# Altium schematic symbol library Connect.SchLib: 108 symbols
Pins are listed as number, name and electrical type; pins without a type are passive.

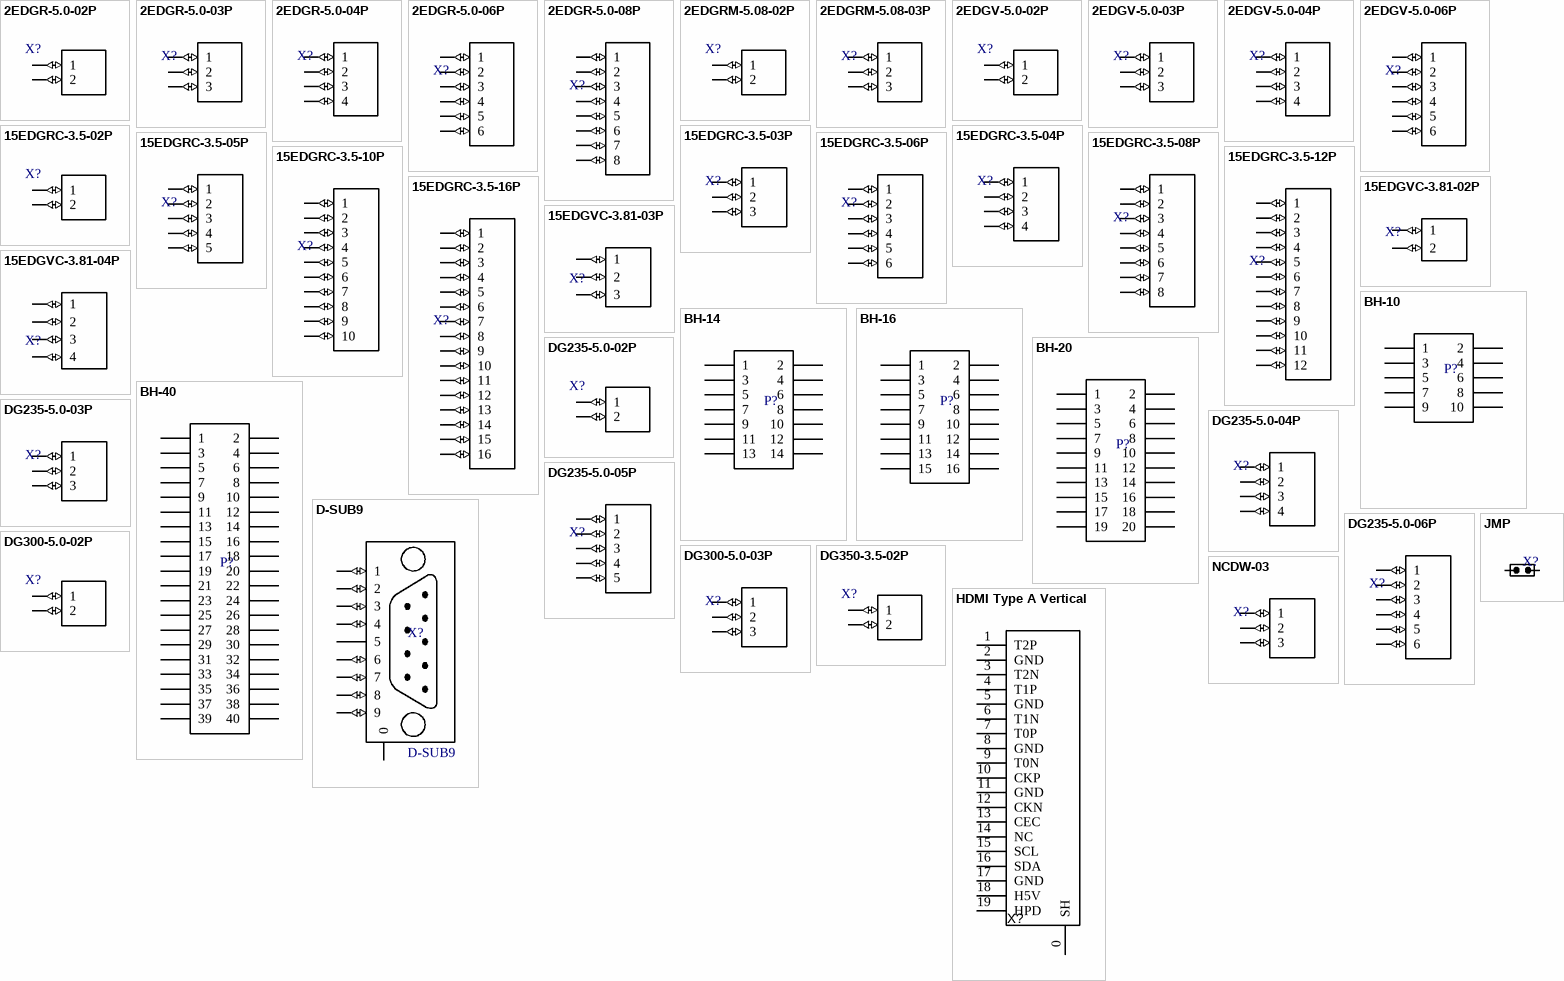
[diagram p0: symbols 2EDGR-5.0-02P to NCDW-03]

## 2EDGR-5.0-02P
designator X?
Connector 5mm
footprint 2EDGR-5.0-02P
pins: 1 (io), 2 (io)

## 2EDGR-5.0-03P
designator X?
Connector 5mm
footprint 2EDGR-5.0-03P
pins: 1 (io), 2 (io), 3 (io)

## 2EDGR-5.0-04P
designator X?
Connector 5mm
footprint 2EDGR-5.0-04P
pins: 1 (io), 2 (io), 3 (io), 4 (io)

## 2EDGR-5.0-06P
designator X?
Connector 5mm
footprint 2EDGR-5.0-06P
pins: 1 (io), 2 (io), 3 (io), 4 (io), 5 (io), 6 (io)

## 2EDGR-5.0-08P
designator X?
Connector 5mm
footprint 2EDGR-5.0-08P
pins: 1 (io), 2 (io), 3 (io), 4 (io), 5 (io), 6 (io), 7 (io), 8 (io)

## 2EDGRM-5.08-02P
designator X?
Connector 5.08mm
footprint 2EDGRM-5.08-02P
pins: 1 (io), 2 (io)

## 2EDGRM-5.08-03P
designator X?
Connector 5.08mm
footprint 2EDGRM-5.08-03P
pins: 1 (io), 2 (io), 3 (io)

## 2EDGV-5.0-02P
designator X?
Connector 5mm
footprint 2EDGV-5.0-02P
pins: 1 (io), 2 (io)

## 2EDGV-5.0-03P
designator X?
Connector 5mm
footprint 2EDGV-5.0-03P
pins: 1 (io), 2 (io), 3 (io)

## 2EDGV-5.0-04P
designator X?
Connector 5mm
footprint 2EDGV-5.0-04P
pins: 1 (io), 2 (io), 3 (io), 4 (io)

## 2EDGV-5.0-06P
designator X?
Connector 5mm
footprint 2EDGV-5.0-06P
pins: 1 (io), 2 (io), 3 (io), 4 (io), 5 (io), 6 (io)

## 15EDGRC-3.5-02P
designator X?
Connector 3.5mm
footprint 15EDGRC-3.5-02P
pins: 1 (io), 2 (io)

## 15EDGRC-3.5-03P
designator X?
Connector 3.5mm
footprint 15EDGRC-3.5-03P
pins: 1 (io), 2 (io), 3 (io)

## 15EDGRC-3.5-04P
designator X?
Connector 3.5mm
footprint 15EDGRC-3.5-04P
pins: 1 (io), 2 (io), 3 (io), 4 (io)

## 15EDGRC-3.5-05P
designator X?
Connector 3.5mm
footprint 15EDGRC-3.5-05P
pins: 1 (io), 2 (io), 3 (io), 4 (io), 5 (io)

## 15EDGRC-3.5-06P
designator X?
Connector 3.5mm
footprint 15EDGRC-3.5-06P
pins: 1 (io), 2 (io), 3 (io), 4 (io), 5 (io), 6 (io)

## 15EDGRC-3.5-08P
designator X?
Connector 3.5mm
footprint 15EDGRC-3.5-08P
pins: 1 (io), 2 (io), 3 (io), 4 (io), 5 (io), 6 (io), 7 (io), 8 (io)

## 15EDGRC-3.5-10P
designator X?
Connector 3.5mm
footprint 15EDGRC-3.5-10P
pins: 1 (io), 2 (io), 3 (io), 4 (io), 5 (io), 6 (io), 7 (io), 8 (io), 9 (io), 10 (io)

## 15EDGRC-3.5-12P
designator X?
Connector 3.5mm
footprint 15EDGRC-3.5-12P
pins: 1 (io), 2 (io), 3 (io), 4 (io), 5 (io), 6 (io), 7 (io), 8 (io), 9 (io), 10 (io), 11 (io), 12 (io)

## 15EDGRC-3.5-16P
designator X?
Connector 3.5mm
footprint 15EDGRC-3.5-16P
pins: 1 (io), 2 (io), 3 (io), 4 (io), 5 (io), 6 (io), 7 (io), 8 (io), 9 (io), 10 (io), 11 (io), 12 (io), 13 (io), 14 (io), 15 (io), 16 (io)

## 15EDGVC-3.81-02P
designator X?
Connector 3.81mm
footprint 15EDGVC-3.81-02P
pins: 1 (io), 2 (io)

## 15EDGVC-3.81-03P
designator X?
Connector 3.81mm
footprint 15EDGVC-3.81-03P
pins: 1 (io), 2 (io), 3 (io)

## 15EDGVC-3.81-04P
designator X?
Connector 3.81mm
footprint 15EDGVC-3.81-04P
pins: 1 (io), 2 (io), 3 (io), 4 (io)

## BH-10
designator P?
IDC/BH
footprint BH-10 HDR2X5 (Connector; Header; 5x2 Position)
footprint BH-10 HDR2X5 - wide area (Connector; Header; 5x2 Position)
footprint BH-10R HDR2X5 (Connector; Header; 5x2 Position)
pins: 1, 2, 3, 4, 5, 6, 7, 8, 9, 10

## BH-14
designator P?
IDC/BH
footprint BH-14 (Connector IDC)
footprint BH2-14 (Connector IDC 2mm)
footprint BH-14R (Connector IDC)
pins: 1, 2, 3, 4, 5, 6, 7, 8, 9, 10, 11, 12, 13, 14

## BH-16
designator P?
IDC/BH
footprint BH-16 (Connector; Header; 8x2 Position)
pins: 1, 2, 3, 4, 5, 6, 7, 8, 9, 10, 11, 12, 13, 14, 15, 16

## BH-20
designator P?
IDC/BH
footprint BH-20 (Connector IDC)
pins: 1, 2, 3, 4, 5, 6, 7, 8, 9, 10, 11, 12, 13, 14, 15, 16, 17, 18, 19, 20

## BH-40
designator P?
IDC/BH
footprint BH-40 (Connector IDC)
pins: 1, 2, 3, 4, 5, 6, 7, 8, 9, 10, 11, 12, 13, 14, 15, 16, 17, 18, 19, 20, 21, 22, 23, 24, 25, 26, 27, 28, 29, 30, 31, 32, 33, 34, 35, 36, 37, 38, 39, 40

## D-SUB9
designator X?
LatestRevisionDate: 17-Jul-2002; LatestRevisionNote: Re-released for DXP Platform.; Publisher: Altium Limited
footprint D-SUB 9/M_3D
footprint D-SUB 9/M_3D_mir
footprint D-SUB 9RA/M
footprint D-SUB 9/M_3D_mama
pins: 0, 1 (io), 2 (io), 3 (io), 4 (io), 5 (power), 6 (io), 7 (io), 8 (io), 9 (io)

## DG235-5.0-02P
designator X?
Connector 5mm
footprint DG235-5.0-02P
pins: 1 (io), 2 (io)

## DG235-5.0-03P
designator X?
Connector 5mm
footprint DG235-5.0-03P
pins: 1 (io), 2 (io), 3 (io)

## DG235-5.0-04P
designator X?
Connector 5mm
footprint DG235-5.0-04P
pins: 1 (io), 2 (io), 3 (io), 4 (io)

## DG235-5.0-05P
designator X?
Connector 5mm
footprint DG235-5.0-05P
pins: 1 (io), 2 (io), 3 (io), 4 (io), 5 (io)

## DG235-5.0-06P
designator X?
Connector 5mm
footprint DG235-5.0-06P
pins: 1 (io), 2 (io), 3 (io), 4 (io), 5 (io), 6 (io)

## DG300-5.0-02P
designator X?
Connector 5mm
footprint 5mm 2
pins: 1 (io), 2 (io)

## DG300-5.0-03P
designator X?
Connector 5mm
footprint 5mm 3
pins: 1 (io), 2 (io), 3 (io)

## DG350-3.5-02P
designator X?
Connector 3.5mm
footprint DG350-3.5 (DEGSON)
pins: 1 (io), 2 (io)

## HDMI Type A Vertical
designator X?
HDMI Type A
footprint HDMI Type A Vertical
pins: 0 SH, 1 T2P, 2 GND, 3 T2N, 4 T1P, 5 GND, 6 T1N, 7 T0P, 8 GND, 9 T0N, 10 CKP, 11 GND, 12 CKN, 13 CEC, 14 NC, 15 SCL, 16 SDA, 17 GND, 18 H5V, 19 HPD

## JMP
designator X?  (value not drawn)
Jumper; LatestRevisionDate: 17-Jul-2002; LatestRevisionNote: Re-released for DXP Platform.; Publisher: Altium Limited
footprint PLS-2-2 (Connector; Header; 1x2 Position)
footprint PLS-2-3D (Connector; Header; 2 Position)
footprint PLS-2RL (Connector; Header; 2 Position; Right Angle)
footprint PLS-2RL-3D (Connector; Header; 2 Position; Right Angle)
footprint PLS-2RR (Connector; Header; 2 Position; Right Angle)
footprint PLS-2RR-3D (Connector; Header; 2 Position; Right Angle)
pins: 1, 2

## NCDW-03
designator X?
Signal connector 2.54мм
footprint NCDW-03
pins: 1 (io), 2 (io), 3 (io)

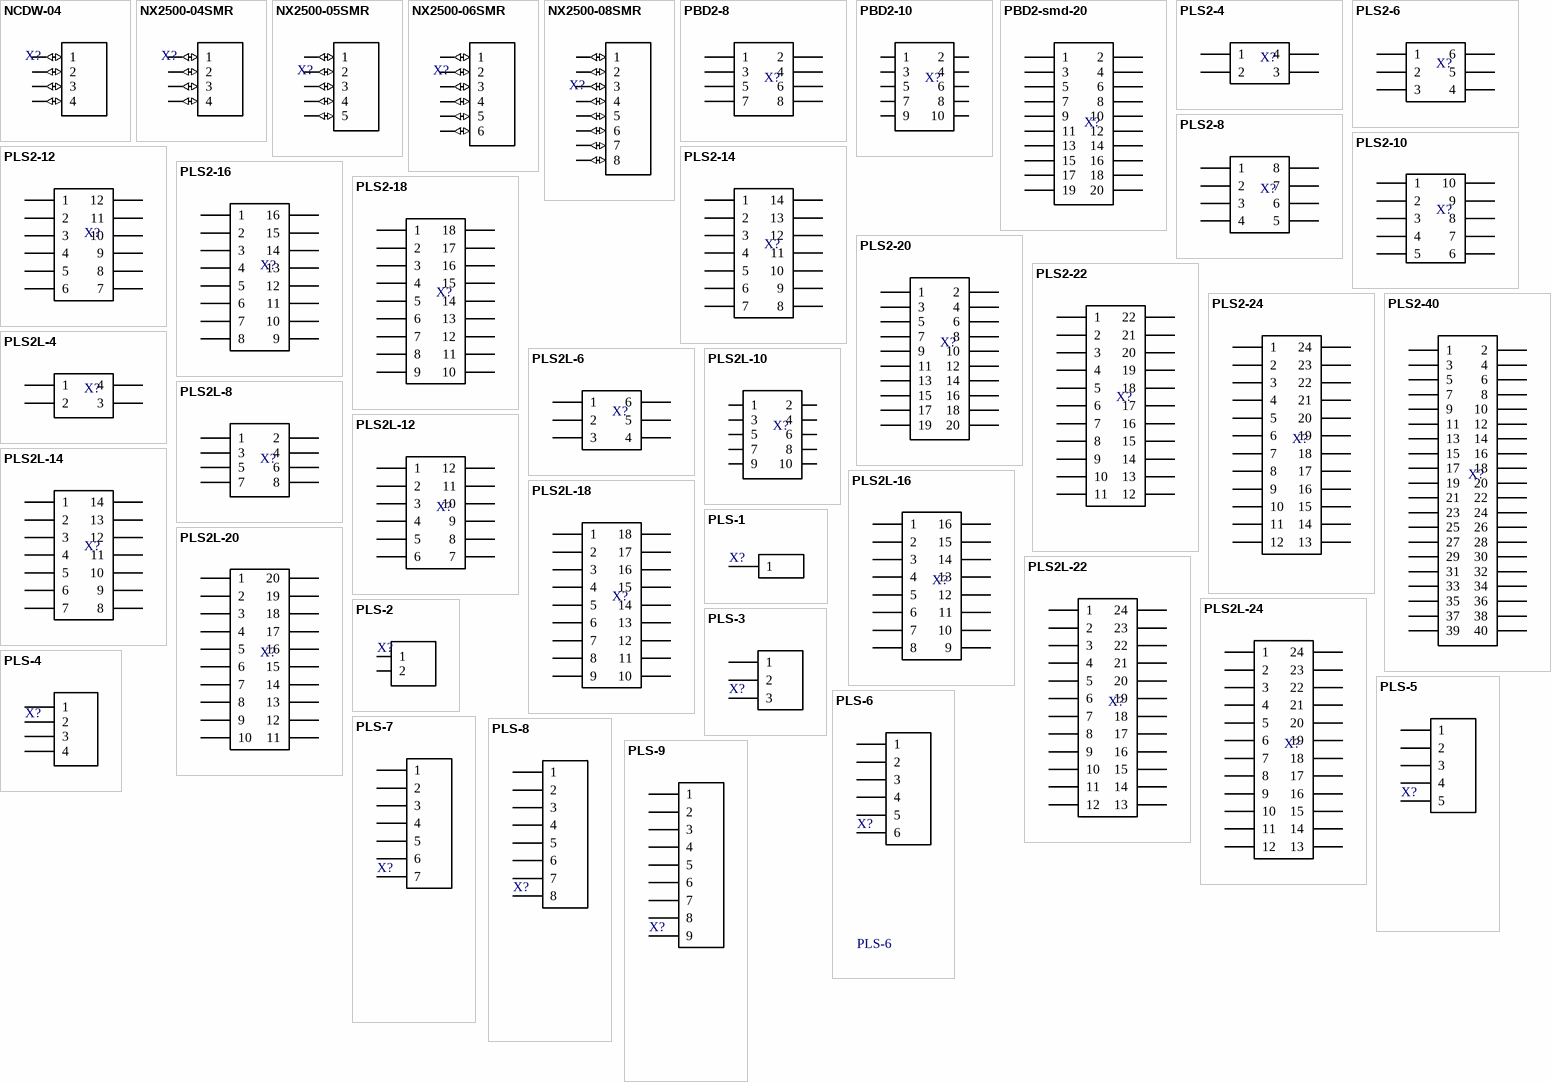
[diagram p1: symbols NCDW-04 to PLS-9]

## NCDW-04
designator X?
Signal connector 2.54мм
footprint NCDW-04
pins: 1 (io), 2 (io), 3 (io), 4 (io)

## NX2500-04SMR
designator X?
Signal connector 2.5мм
footprint NX2500-04SMR (Connector; Header; 1x4 Position; 2.5 mm)
pins: 1 (io), 2 (io), 3 (io), 4 (io)

## NX2500-05SMR
designator X?
Signal connector 2.5мм
footprint NX2500-05SMR (Connector; Header; 1x5 Position; 2.5 mm)
pins: 1 (io), 2 (io), 3 (io), 4 (io), 5 (io)

## NX2500-06SMR
designator X?
Signal connector 2.5мм
footprint NX2500-06SMR (Connector; Header; 1x6 Position; 2.5 mm)
pins: 1 (io), 2 (io), 3 (io), 4 (io), 5 (io), 6 (io)

## NX2500-08SMR
designator X?
Signal connector 2.5мм
footprint NX2500-08SMR (Connector; Header; 1x8 Position; 2.5 mm)
pins: 1 (io), 2 (io), 3 (io), 4 (io), 5 (io), 6 (io), 7 (io), 8 (io)

## PBD2-8
designator X?  (value not drawn)
Header, 8-Pin
footprint PBD-8R
pins: 1, 2, 3, 4, 5, 6, 7, 8

## PBD2-10
designator X?  (value not drawn)
Header, 10-Pin
footprint PBD-10R
pins: 1, 2, 3, 4, 5, 6, 7, 8, 9, 10

## PBD2-smd-20
designator X?  (value not drawn)
Header, 20-Pin
footprint PBD2-1.27-20-SMD (Connector; Header; 20 Position)
pins: 1, 2, 3, 4, 5, 6, 7, 8, 9, 10, 11, 12, 13, 14, 15, 16, 17, 18, 19, 20

## PLS2-4
designator X?
Header, 4-Pin
footprint PBS2-4 (Connector; Header; 4 Position)
footprint PLS2-4 (Connector; Header; 4 Position)
pins: 1, 2, 3, 4

## PLS2-6
designator X?
Header, 6-Pin
footprint PBS2-6 (Connector; Header; 6 Position)
footprint PLS2-6 (Connector; Header; 6 Position)
pins: 1, 2, 3, 4, 5, 6

## PLS2-8
designator X?, comment PBS2-8  (value not drawn)
Header, 8-Pin
footprint PBS2-8 (Connector; Header; 8 Position)
footprint PLS2-8 (Connector; Header; 8 Position)
pins: 1, 2, 3, 4, 5, 6, 7, 8

## PLS2-10
designator X?
Header, 10-Pin
footprint PBS2-10 (Connector; Header; 10 Position)
footprint PBSMD2-10 (Connector; Header; 10 Position)
footprint PLS2-10 (Connector; Header; 10 Position)
pins: 1, 2, 3, 4, 5, 6, 7, 8, 9, 10

## PLS2-12
designator X?, comment PBS2-12  (value not drawn)
Header, 12-Pin
footprint PBS2-12 (Connector; Header; 10 Position)
footprint PLS2-12 (Connector; Header; 12 Position)
pins: 1, 2, 3, 4, 5, 6, 7, 8, 9, 10, 11, 12

## PLS2-14
designator X?
Header, 14-Pin
footprint PBS2-14 (Connector; Header; 12 Position)
footprint PBSMD2-14 (Connector; Header; 14 Position)
footprint PLS2-14 (Connector; Header; 14 Position)
pins: 1, 2, 3, 4, 5, 6, 7, 8, 9, 10, 11, 12, 13, 14

## PLS2-16
designator X?, comment PBS2-16  (value not drawn)
Header, 16-Pin
footprint PBS2-16 (Connector; Header; 16 Position)
footprint PBSMD2-16 (Connector; Header; 16 Position)
footprint PLS2-16 (Connector; Header; 16 Position)
pins: 1, 2, 3, 4, 5, 6, 7, 8, 9, 10, 11, 12, 13, 14, 15, 16

## PLS2-18
designator X?
Header, 18-Pin
footprint PBS2-18 (Connector; Header; 18 Position)
footprint PLS2-18 (Connector; Header; 18 Position)
pins: 1, 2, 3, 4, 5, 6, 7, 8, 9, 10, 11, 12, 13, 14, 15, 16, 17, 18

## PLS2-20
designator X?, comment PBS2-20  (value not drawn)
Header, 20-Pin
footprint PBS2-20 (Connector; Header; 20 Position)
footprint PBSMD2-20 (Connector; Header; 20 Position)
footprint PLS2-20 (Connector; Header; 20 Position)
pins: 1, 2, 3, 4, 5, 6, 7, 8, 9, 10, 11, 12, 13, 14, 15, 16, 17, 18, 19, 20

## PLS2-22
designator X?
Header, 22-Pin; LatestRevisionDate: 17-Jul-2002; LatestRevisionNote: Re-released for DXP Platform.; Publisher: Altium Limited
footprint PLS2-22
pins: 1, 2, 3, 4, 5, 6, 7, 8, 9, 10, 11, 12, 13, 14, 15, 16, 17, 18, 19, 20, 21, 22

## PLS2-24
designator X?
Header, 24-Pin; LatestRevisionDate: 17-Jul-2002; LatestRevisionNote: Re-released for DXP Platform.; Publisher: Altium Limited
footprint PLS2-24 (Footprint not found)
pins: 1, 2, 3, 4, 5, 6, 7, 8, 9, 10, 11, 12, 13, 14, 15, 16, 17, 18, 19, 20, 21, 22, 23, 24

## PLS2-40
designator X?
Header, 40-Pin
footprint PLS2-40 (Connector; Header; 40 Position)
pins: 1, 2, 3, 4, 5, 6, 7, 8, 9, 10, 11, 12, 13, 14, 15, 16, 17, 18, 19, 20, 21, 22, 23, 24, 25, 26, 27, 28, 29, 30, 31, 32, 33, 34, 35, 36, 37, 38, 39, 40

## PLS2L-4
designator X?
Header, 4-Pin
footprint PLS2L-4 (Connector; Header; 4 Position)
pins: 1, 2, 3, 4

## PLS2L-6
designator X?
Header, 6-Pin
footprint PLS2L-6
pins: 1, 2, 3, 4, 5, 6

## PLS2L-8
designator X?
Header, 8-Pin
footprint PLS2L-8
pins: 1, 2, 3, 4, 5, 6, 7, 8

## PLS2L-10
designator X?
Header, 10-Pin
footprint PLS2L-10
pins: 1, 2, 3, 4, 5, 6, 7, 8, 9, 10

## PLS2L-12
designator X?
Header, 12-Pin
footprint PLS2L-12
pins: 1, 2, 3, 4, 5, 6, 7, 8, 9, 10, 11, 12

## PLS2L-14
designator X?
Header, 14-Pin
footprint PLS2L-14
pins: 1, 2, 3, 4, 5, 6, 7, 8, 9, 10, 11, 12, 13, 14

## PLS2L-16
designator X?
Header, 16-Pin
footprint PLS2L-16
pins: 1, 2, 3, 4, 5, 6, 7, 8, 9, 10, 11, 12, 13, 14, 15, 16

## PLS2L-18
designator X?
Header, 18-Pin
footprint PLS2L-18
pins: 1, 2, 3, 4, 5, 6, 7, 8, 9, 10, 11, 12, 13, 14, 15, 16, 17, 18

## PLS2L-20
designator X?
Header, 20-Pin
footprint PLS2L-20 (Connector; Header; 20 Position)
pins: 1, 2, 3, 4, 5, 6, 7, 8, 9, 10, 11, 12, 13, 14, 15, 16, 17, 18, 19, 20

## PLS2L-22
designator X?
Header, 22-Pin
footprint PLS2L-22
pins: 1, 2, 3, 4, 5, 6, 7, 8, 9, 10, 11, 12, 13, 14, 15, 16, 17, 18, 19, 20, 21, 22, 23, 24

## PLS2L-24
designator X?
Header, 24-Pin
footprint PLS2L-24
pins: 1, 2, 3, 4, 5, 6, 7, 8, 9, 10, 11, 12, 13, 14, 15, 16, 17, 18, 19, 20, 21, 22, 23, 24

## PLS-1
designator X?
Header, 1-Pin; LatestRevisionDate: 17-Jul-2002; LatestRevisionNote: Re-released for DXP Platform.; Publisher: Altium Limited
footprint PLS-1-3D (Connector; Header; 1 Position)
footprint PLS-1R (Connector; Header; 1 Position; Right Angle)
footprint PLS-1R-3D (Connector; Header; 1 Position; Right Angle)
pins: 1

## PLS-2
designator X?
Header, 2-Pin; LatestRevisionDate: 17-Jul-2002; LatestRevisionNote: Re-released for DXP Platform.; Publisher: Altium Limited
footprint PLS-2-2 (Connector; Header; 1x2 Position)
footprint PLS-2-3D (Connector; Header; 2 Position)
footprint PLS-2RL (Connector; Header; 2 Position; Right Angle)
footprint PLS-2RL-3D (Connector; Header; 2 Position; Right Angle)
footprint PLS-2RR (Connector; Header; 2 Position; Right Angle)
footprint PLS-2RR-3D (Connector; Header; 2 Position; Right Angle)
pins: 1, 2

## PLS-3
designator X?
Header, 3-Pin; LatestRevisionDate: 17-Jul-2002; LatestRevisionNote: Re-released for DXP Platform.; Publisher: Altium Limited
footprint PLS-3-3D (Connector; Header; 3 Position)
pins: 1, 2, 3

## PLS-4
designator X?
Header, 4-Pin; LatestRevisionDate: 17-Jul-2002; LatestRevisionNote: Re-released for DXP Platform.; Publisher: Altium Limited
footprint PLS-4-3D (Connector; Header; 4 Position)
pins: 1, 2, 3, 4

## PLS-5
designator X?
Header, 5-Pin; LatestRevisionDate: 17-Jul-2002; LatestRevisionNote: Re-released for DXP Platform.; Publisher: Altium Limited
footprint PLS-5-3D (Connector; Header; 5 Position)
pins: 1, 2, 3, 4, 5

## PLS-6
designator X?
Header, 6-Pin; LatestRevisionDate: 17-Jul-2002; LatestRevisionNote: Re-released for DXP Platform.; Publisher: Altium Limited
footprint PLS-6-3D (Connector; Header; 4 Position)
pins: 1, 2, 3, 4, 5, 6

## PLS-7
designator X?
Header, 7-Pin; LatestRevisionDate: 17-Jul-2002; LatestRevisionNote: Re-released for DXP Platform.; Publisher: Altium Limited
footprint PLS-7-3D (Connector; Header; 7 Position)
pins: 1, 2, 3, 4, 5, 6, 7

## PLS-8
designator X?
Header, 8-Pin; LatestRevisionDate: 17-Jul-2002; LatestRevisionNote: Re-released for DXP Platform.; Publisher: Altium Limited
footprint PLS-8-3D (Connector; Header; 8 Position)
pins: 1, 2, 3, 4, 5, 6, 7, 8

## PLS-9
designator X?
Header, 9-Pin; LatestRevisionDate: 17-Jul-2002; LatestRevisionNote: Re-released for DXP Platform.; Publisher: Altium Limited
footprint PLS-9-3D (Connector; Header; 9 Position)
pins: 1, 2, 3, 4, 5, 6, 7, 8, 9

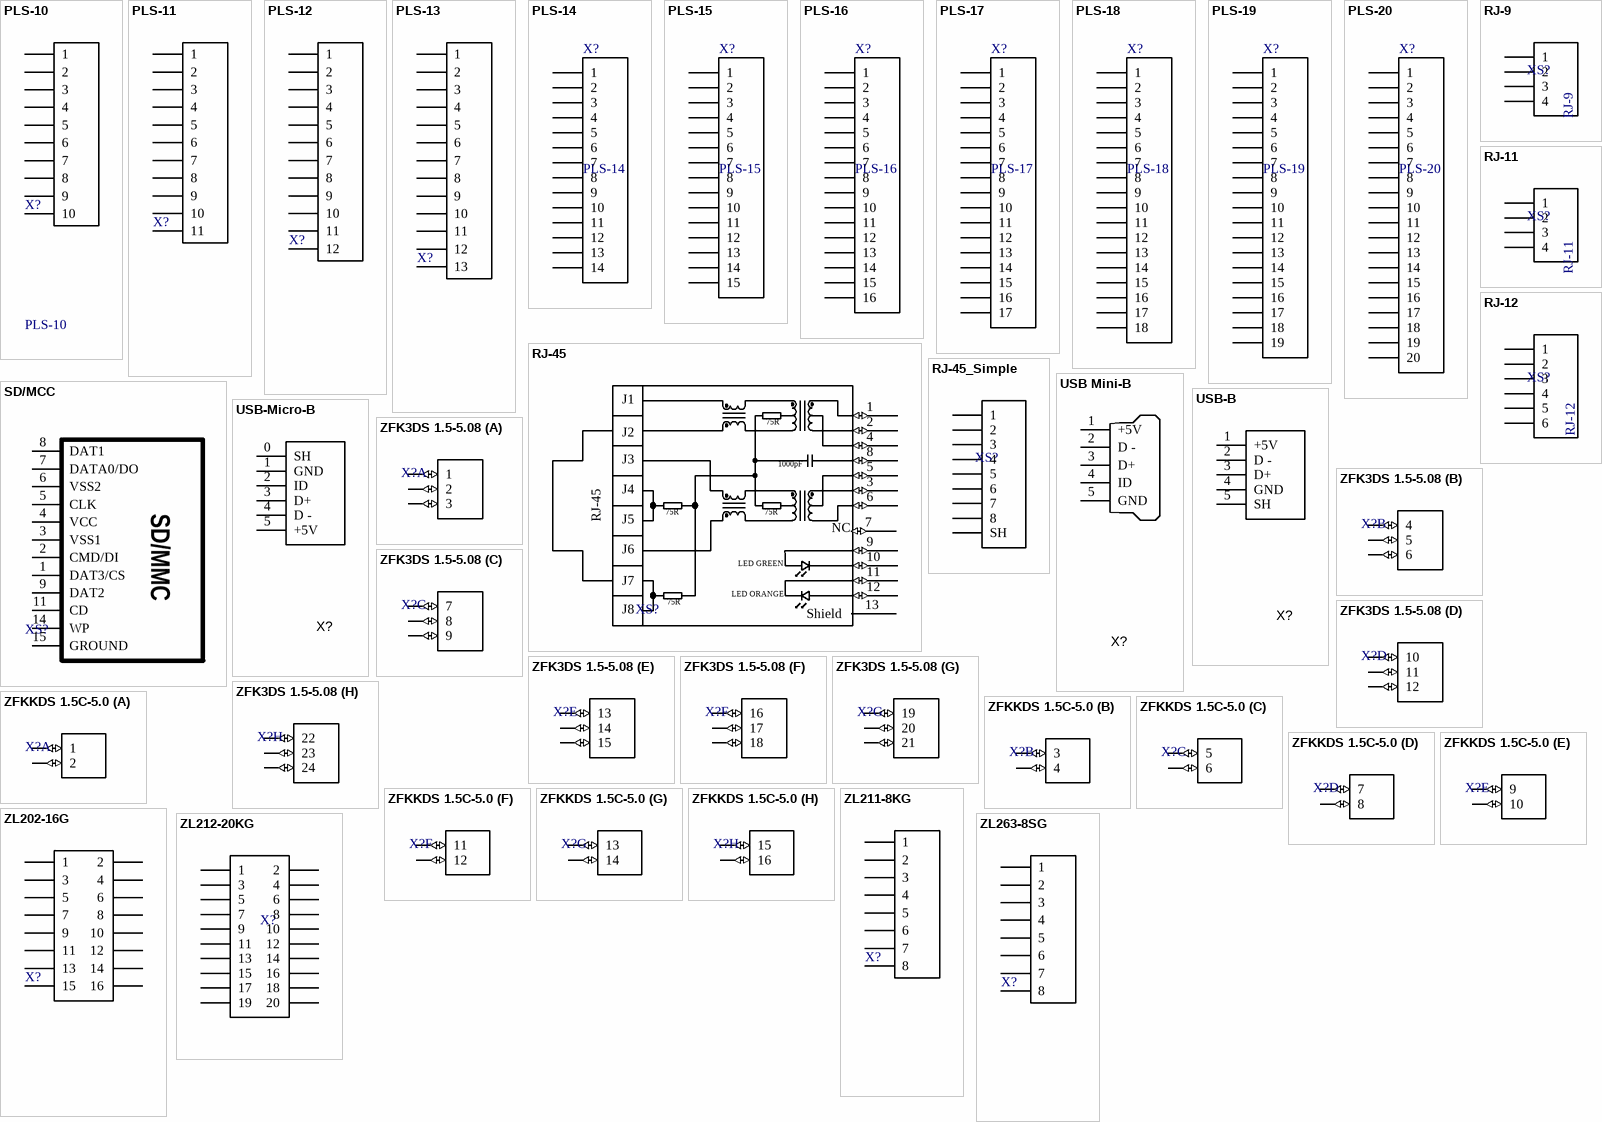
[diagram p2: symbols PLS-10 to ZL263-8SG]

## PLS-10
designator X?
Header, 10-Pin; LatestRevisionDate: 17-Jul-2002; LatestRevisionNote: Re-released for DXP Platform.; Publisher: Altium Limited
footprint PLS-10-3D (Connector; Header; 10 Position)
pins: 1, 2, 3, 4, 5, 6, 7, 8, 9, 10

## PLS-11
designator X?
Header, 11-Pin; LatestRevisionDate: 17-Jul-2002; LatestRevisionNote: Re-released for DXP Platform.; Publisher: Altium Limited
footprint PLS-11-3D (Connector; Header; 11 Position)
pins: 1, 2, 3, 4, 5, 6, 7, 8, 9, 10, 11

## PLS-12
designator X?
Header, 12-Pin; LatestRevisionDate: 17-Jul-2002; LatestRevisionNote: Re-released for DXP Platform.; Publisher: Altium Limited
footprint PLS-12-3D (Connector; Header; 12 Position)
pins: 1, 2, 3, 4, 5, 6, 7, 8, 9, 10, 11, 12

## PLS-13
designator X?
Header, 13-Pin; LatestRevisionDate: 17-Jul-2002; LatestRevisionNote: Re-released for DXP Platform.; Publisher: Altium Limited
footprint PLS-13-3D (Connector; Header; 13 Position)
pins: 1, 2, 3, 4, 5, 6, 7, 8, 9, 10, 11, 12, 13

## PLS-14
designator X?
Header, 14-Pin; LatestRevisionDate: 17-Jul-2002; LatestRevisionNote: Re-released for DXP Platform.; Publisher: Altium Limited
footprint PLS-14-3D (Connector; Header; 14 Position)
footprint PLS-14RL-3D (Connector; Header; 14 Position; Right Angle)
pins: 1, 2, 3, 4, 5, 6, 7, 8, 9, 10, 11, 12, 13, 14

## PLS-15
designator X?
Header, 15-Pin; LatestRevisionDate: 17-Jul-2002; LatestRevisionNote: Re-released for DXP Platform.; Publisher: Altium Limited
footprint PLS-15-3D (Connector; Header; 15 Position)
pins: 1, 2, 3, 4, 5, 6, 7, 8, 9, 10, 11, 12, 13, 14, 15

## PLS-16
designator X?
Header, 16-Pin; LatestRevisionDate: 17-Jul-2002; LatestRevisionNote: Re-released for DXP Platform.; Publisher: Altium Limited
footprint PLS-16-3D (Connector; Header; 16 Position)
pins: 1, 2, 3, 4, 5, 6, 7, 8, 9, 10, 11, 12, 13, 14, 15, 16

## PLS-17
designator X?
Header, 17-Pin; LatestRevisionDate: 17-Jul-2002; LatestRevisionNote: Re-released for DXP Platform.; Publisher: Altium Limited
footprint PLS-17-3D (Connector; Header; 17 Position)
pins: 1, 2, 3, 4, 5, 6, 7, 8, 9, 10, 11, 12, 13, 14, 15, 16, 17

## PLS-18
designator X?
Header, 18-Pin; LatestRevisionDate: 17-Jul-2002; LatestRevisionNote: Re-released for DXP Platform.; Publisher: Altium Limited
footprint PLS-18-3D (Connector; Header; 18 Position)
pins: 1, 2, 3, 4, 5, 6, 7, 8, 9, 10, 11, 12, 13, 14, 15, 16, 17, 18

## PLS-19
designator X?
Header, 19-Pin; LatestRevisionDate: 17-Jul-2002; LatestRevisionNote: Re-released for DXP Platform.; Publisher: Altium Limited
footprint PLS-19-3D (Connector; Header; 19 Position)
pins: 1, 2, 3, 4, 5, 6, 7, 8, 9, 10, 11, 12, 13, 14, 15, 16, 17, 18, 19

## PLS-20
designator X?
Header, 20-Pin; LatestRevisionDate: 17-Jul-2002; LatestRevisionNote: Re-released for DXP Platform.; Publisher: Altium Limited
footprint PLS-20-3D (Connector; Header; 20 Position)
pins: 1, 2, 3, 4, 5, 6, 7, 8, 9, 10, 11, 12, 13, 14, 15, 16, 17, 18, 19, 20

## RJ-9
designator XS?
Connector RJ-9
footprint RJ-9 - YH-52-01 (Telephone connector)
pins: 1, 2, 3, 4

## RJ-11
designator XS?
Connector RJ-11
footprint RJ-11 - TJ4-4P4C (Telephone connector)
pins: 1, 2, 3, 4

## RJ-12
designator XS?
Connector RJ-12
footprint RJ-12 - TJ4-6P6C (Telephone connector)
pins: 1, 2, 3, 4, 5, 6

## RJ-45
designator XS?
Connector RJ-45
footprint RJ-45 - WA
footprint RJ-45 - Pulse Jack
footprint RJ-45 - HR911105A (Ethernet connector)
footprint RJ-45 - RD1-125BAG1A
pins: 1 (io), 2 (io), 3 (io), 4 (io), 5 (io), 6 (io), 7 (io), 8 (io), 9 (io), 10 (io), 11 (io), 12 (io), 13 Shield
text: J1; 75R; J2; J3; 1000pF; J4; J5; NC; J6; LED GREEN; J7; LED ORANGE; J8

## RJ-45_Simple
designator XS?
Connector RJ-45 Simple
footprint RJ-45 - RJ45GE
footprint RJ-45 - Z TG8P8C led
footprint RJ-45 - TJ12-8P8C
footprint RJ-45 - TJ4-8P8C
pins: 1, 2, 3, 4, 5, 6, 7, 8, 13 SH

## SD/MCC
designator XS?
Connect SD/MMC
footprint SD/MMC
footprint SD Card
pins: 1 DAT3/CS, 2 CMD/DI, 3 VSS1 (power), 4 VCC (power), 5 CLK, 6 VSS2 (power), 7 DATA0/DO, 8 DAT1, 9 DAT2, 11 CD, 14 WP, 15 GROUND
text: SD/MMC

## USB Mini-B
designator X?
Connector USB Type Mini-B SMD
footprint USB_Mini-B_Molex_SMT
pins: 1 +5V, 2 D -, 3 D+, 4 ID, 5 GND

## USB-B
designator X?
Connector USB Type Mini-B SMD
footprint USB-B
pins: 1 +5V, 2 D -, 3 D+, 4 GND, 5 SH

## USB-Micro-B
designator X?
Connector USB Type Micro-B
footprint USB-micro_Vertical
pins: 0 SH, 1 GND, 2 ID, 3 D+, 4 D -, 5 +5V

## ZFK3DS 1.5-5.08
designator X?
Connector 5mm
footprint ZFK3DS 1.5-5.08
part A pins: 1 (io), 2 (io), 3 (io)
part B pins: 4 (io), 5 (io), 6 (io)
part C pins: 7 (io), 8 (io), 9 (io)
part D pins: 10 (io), 11 (io), 12 (io)
part E pins: 13 (io), 14 (io), 15 (io)
part F pins: 16 (io), 17 (io), 18 (io)
part G pins: 19 (io), 20 (io), 21 (io)
part H pins: 22 (io), 23 (io), 24 (io)

## ZFKKDS 1.5C-5.0
designator X?
Connector 5mm
footprint ZFKKDS 1.5C-5.0
part A pins: 1 (io), 2 (io)
part B pins: 3 (io), 4 (io)
part C pins: 5 (io), 6 (io)
part D pins: 7 (io), 8 (io)
part E pins: 9 (io), 10 (io)
part F pins: 11 (io), 12 (io)
part G pins: 13 (io), 14 (io)
part H pins: 15 (io), 16 (io)

## ZL202-16G
designator X?
Header, 16-Pin, Dual row 2.54; LatestRevisionDate: 17-Jul-2002; LatestRevisionNote: Re-released for DXP Platform.; Publisher: Altium Limited
footprint ZL202-16G (Connector; Header; 2x8 Position)
pins: 1, 2, 3, 4, 5, 6, 7, 8, 9, 10, 11, 12, 13, 14, 15, 16

## ZL211-8KG
designator X?
Header, 8-Pin, Dual row 2.54; LatestRevisionDate: 17-Jul-2002; LatestRevisionNote: Re-released for DXP Platform.; Publisher: Altium Limited
footprint ZL211-8KG (Connector; Header; 8 Position)
pins: 1, 2, 3, 4, 5, 6, 7, 8

## ZL212-20KG
designator X?
Header, 20-Pin, Dual row 2.54
footprint PBT-20R
pins: 1, 2, 3, 4, 5, 6, 7, 8, 9, 10, 11, 12, 13, 14, 15, 16, 17, 18, 19, 20

## ZL263-8SG
designator X?
Header, 8-Pin, Dual row 2.54; LatestRevisionDate: 17-Jul-2002; LatestRevisionNote: Re-released for DXP Platform.; Publisher: Altium Limited
footprint ZL263-8SG (Connector; Header; 8 Position)
pins: 1, 2, 3, 4, 5, 6, 7, 8

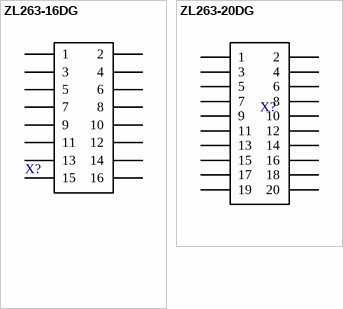
[diagram p3: symbols ZL263-16DG to ZL263-20DG]

## ZL263-16DG
designator X?
Header, 16-Pin, Dual row 2.54; LatestRevisionDate: 17-Jul-2002; LatestRevisionNote: Re-released for DXP Platform.; Publisher: Altium Limited
footprint ZL263-16DG (Connector; Header; 2x8 Position)
pins: 1, 2, 3, 4, 5, 6, 7, 8, 9, 10, 11, 12, 13, 14, 15, 16

## ZL263-20DG
designator X?
Header, 20-Pin, Dual row 2.54
footprint PBD-20R
pins: 1, 2, 3, 4, 5, 6, 7, 8, 9, 10, 11, 12, 13, 14, 15, 16, 17, 18, 19, 20